# EAGLE library part BALUN (library hack)
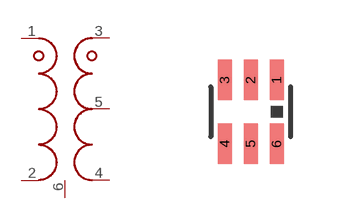
[diagram p6: symbol with the pads of BALUN; footprint BALUN]

Designator prefix B

## BALUN  [BALUN]
1  UN
2  GND/DC
3  B1
4  B2
5  GND
6  P$1

## Footprint BALUN (pad centres in mm)
smd 0.35 x 1: 1 0.65,0.8; 2 0,0.8; 3 -0.65,0.8; 4 -0.65,-0.8; 5 0,-0.8; 6 0.65,-0.8